# EAGLE library part POWERSHIFT (library unicorn)
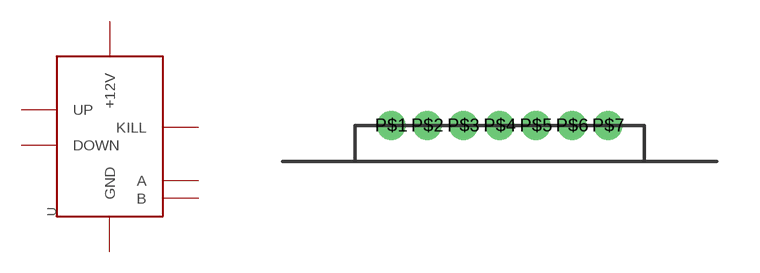
[diagram p2: symbol with the pads of SYSTEM-7; footprint SYSTEM-7]

Designator prefix -

## POWERSHIFT  [SYSTEM-7]
P$1  +12V  pwr
P$2  A  out
P$3  B  out
P$4  DOWN  in
P$5  GND  pwr
P$6  KILL  out
P$7  UP  in

## Footprint SYSTEM-7 (pad centres in mm)
drill 0.5 round: P$1 -3.81,0; P$2 -2.54,0; P$3 -1.27,0; P$4 0,0; P$5 1.27,0; P$6 2.54,0; P$7 3.81,0